# EAGLE library part TPA152D (library tpa152)
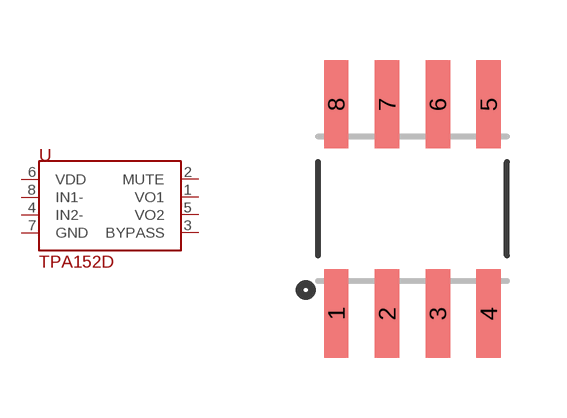
[diagram p0: symbol with the pads of SOIC8; footprint SOIC8]

Designator prefix -

## TPA152D  [SOIC8]
1  VO1
2  MUTE
3  BYPASS
4  IN2-
5  VO2
6  VDD
7  GND
8  IN1-

## Footprint SOIC8 (pad centres in mm)
SOIC 8-Lead
smd 0.61 x 2.21: 1 -1.905,-2.616; 2 -0.635,-2.616; 3 0.635,-2.616; 4 1.905,-2.616; 5 1.905,2.616; 6 0.635,2.616; 7 -0.635,2.616; 8 -1.905,2.616